# Altium schematic symbol library FH19C-8S-0.5SH_10_.SchLib: 1 symbol
Pins are listed as number, name and electrical type; pins without a type are passive.

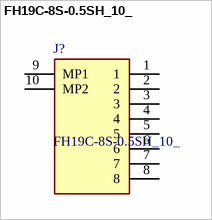
[diagram p0: symbol FH19C-8S-0.5SH_10_]

## FH19C-8S-0.5SH_10_
designator J?
8 position FFC, FPC connectors Contacts, below 0.020" (0.50mm) Mounting mounting, straight angle , 50V of 50V , 0.5AA , -55C +85C; Manufacturer_Name: Hirose; Manufacturer_Part_Number: FH19C-8S-0.5SH(10); Geometry.Height: 1mm; Mouser Part Number: 798-FH19C8S05SH10; Mouser Price/Stock: https://www.mouser.co.uk/ProductDetail/Hirose-Connector/FH19C-8S-0.5SH10?qs=kDD%2FdQe9TTeGPfcWhk%252BYwQ%3D%3D; Arrow Part Number: *; Arrow Price/Stock: *; Datasheet Link: https://www.hirose.com/en/product/document?clcode=CL0580-0404-9-10&productname=FH19C-8S-0.5SH(10)&series=FH19C__FH19SC&documenttype=2DDrawing&lang=en&documentid=0000990634
footprint FH19C8S05SH10
pins: 1, 2, 3, 4, 5, 6, 7, 8, 9 MP1, 10 MP2